# Altium footprint library Inductor_SMD.PcbLib: 259 footprints (part 11 of 17)
Each footprint in its own frame and in the unit in brackets; x right, y up, seen from the top. Pads: shape width x height; smd on the part's side, far side on the other; paste and mask are expansions set on the pad; w line width, h text height; cw(c..) or ccw(c..) is an arc to the next point about the centre after c.
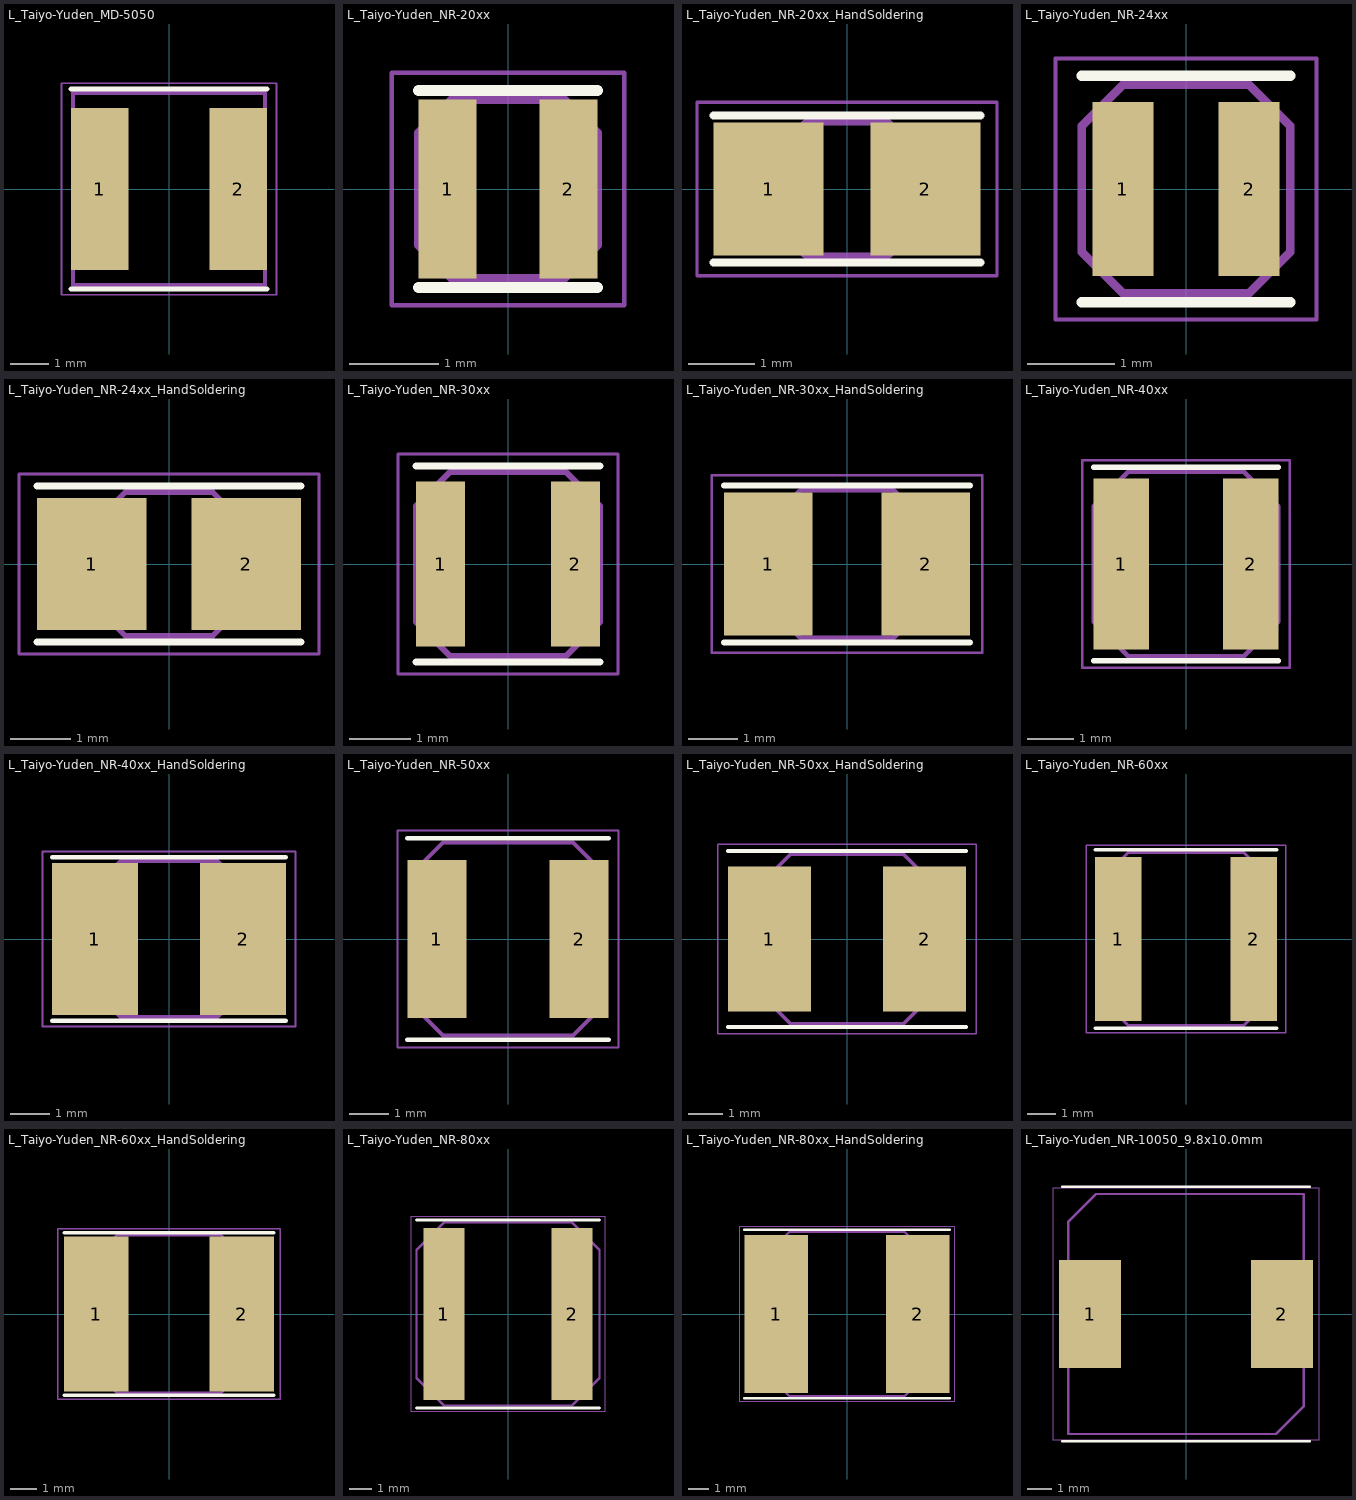
[diagram p10: the footprints below, top view; thin cyan lines are the x and y axes]

## L_Taiyo-Yuden_MD-5050 [mm]
pads (2):
  rect 1.5x4.2 smd: 1(-1.8,0) 2(1.8,0)
F.SilkS:
  lines w0.12: -2.55,-2.6 2.55,-2.6 ; -2.55,2.6 2.55,2.6
F.CrtYd:
  lines w0.05: -2.8,-2.75 2.8,-2.75 2.8,2.75 -2.8,2.75 -2.8,-2.75
F.Fab:
  lines w0.1: -2.5,-2.5 2.5,-2.5 2.5,2.5 -2.5,2.5 -2.5,-2.5
  text "'.Designator'" at -4.047,-0.84 h1

## L_Taiyo-Yuden_NR-20xx [mm]
pads (2):
  rect 0.65x2 smd: 1(-0.675,0) 2(0.675,0)
F.SilkS:
  lines w0.12: -1,-1.1 1,-1.1 ; -1,1.1 1,1.1
F.CrtYd:
  lines w0.05: -1.3,-1.3 1.3,-1.3 1.3,1.3 -1.3,1.3 -1.3,-1.3
F.Fab:
  lines w0.1: -1,-0.625 -1,0.625 -0.625,1 0.625,1 1,0.625 1,-0.625 0.625,-1 -0.625,-1 -1,-0.625
  text "'.Designator'" at -2.023,-0.42 h0.5

## L_Taiyo-Yuden_NR-20xx_HandSoldering [mm]
pads (2):
  rect 1.65x2 smd: 1(-1.175,0) 2(1.175,0)
F.SilkS:
  lines w0.12: -2,-1.1 2,-1.1 ; -2,1.1 2,1.1
F.CrtYd:
  lines w0.05: -2.25,-1.3 2.25,-1.3 2.25,1.3 -2.25,1.3 -2.25,-1.3
F.Fab:
  lines w0.1: -1,-0.625 -0.625,-1 0,-1 0.625,-1 1,-0.625 1,0 1,0.625 0.625,1 0,1 -0.625,1 -1,0.625 -1,0 -1,-0.625
  text "'.Designator'" at -2.023,-0.42 h0.5

## L_Taiyo-Yuden_NR-24xx [mm]
pads (2):
  rect 0.7x2 smd: 1(-0.725,0) 2(0.725,0)
F.SilkS:
  lines w0.12: -1.2,-1.3 1.2,-1.3 ; -1.2,1.3 1.2,1.3
F.CrtYd:
  lines w0.05: -1.5,-1.5 1.5,-1.5 1.5,1.5 -1.5,1.5 -1.5,-1.5
F.Fab:
  lines w0.1: -1.2,-0.725 -0.725,-1.2 0.725,-1.2 1.2,-0.725 1.2,0.725 0.725,1.2 -0.725,1.2 -1.2,0.725 -1.2,-0.725
  text "'.Designator'" at -2.023,-0.42 h0.5

## L_Taiyo-Yuden_NR-24xx_HandSoldering [mm]
pads (2):
  rect 1.825x2.2 smd: 1(-1.288,0) 2(1.288,0)
F.SilkS:
  lines w0.12: -2.2,-1.3 2.2,-1.3 ; -2.2,1.3 2.2,1.3
F.CrtYd:
  lines w0.05: -2.5,-1.5 2.5,-1.5 2.5,1.5 -2.5,1.5 -2.5,-1.5
F.Fab:
  lines w0.1: -1.2,-0.725 -1.2,0 -1.2,0.725 -0.725,1.2 0,1.2 0.725,1.2 1.2,0.725 1.2,0 1.2,-0.725 0.725,-1.2 0,-1.2 -0.725,-1.2 -1.2,-0.725
  text "'.Designator'" at -2.023,-0.42 h0.5

## L_Taiyo-Yuden_NR-30xx [mm]
pads (2):
  rect 0.8x2.7 smd: 1(-1.1,0) 2(1.1,0)
F.SilkS:
  lines w0.12: -1.5,-1.6 1.5,-1.6 ; -1.5,1.6 1.5,1.6
F.CrtYd:
  lines w0.05: -1.8,-1.8 1.8,-1.8 1.8,1.8 -1.8,1.8 -1.8,-1.8
F.Fab:
  lines w0.1: -1.5,-0.95 -0.95,-1.5 0.95,-1.5 1.5,-0.95 1.5,0.95 0.95,1.5 -0.95,1.5 -1.5,0.95 -1.5,-0.95
  text "'.Designator'" at -2.833,-0.588 h0.7

## L_Taiyo-Yuden_NR-30xx_HandSoldering [mm]
pads (2):
  rect 1.8x2.9 smd: 1(-1.6,0) 2(1.6,0)
F.SilkS:
  lines w0.12: -2.5,-1.6 2.5,-1.6 ; -2.5,1.6 2.5,1.6
F.CrtYd:
  lines w0.05: -2.75,-1.8 2.75,-1.8 2.75,1.8 -2.75,1.8 -2.75,-1.8
F.Fab:
  lines w0.1: -1.5,-0.95 -0.95,-1.5 0,-1.5 0.95,-1.5 1.5,-0.95 1.5,0 1.5,0.95 0.95,1.5 0,1.5 -0.95,1.5 -1.5,0.95 -1.5,0 -1.5,-0.95
  text "'.Designator'" at -2.833,-0.588 h0.7

## L_Taiyo-Yuden_NR-40xx [mm]
pads (2):
  rect 1.2x3.7 smd: 1(-1.4,0) 2(1.4,0)
F.SilkS:
  lines w0.12: -2,-2.1 2,-2.1 ; -2,2.1 2,2.1
F.CrtYd:
  lines w0.05: -2.25,-2.25 -2.25,2.25 2.25,2.25 2.25,-2.25 -2.25,-2.25
F.Fab:
  lines w0.1: -2,-1.25 -1.25,-2 1.25,-2 2,-1.25 2,1.25 1.25,2 -1.25,2 -2,1.25 -2,-1.25
  text "'.Designator'" at -4.047,-0.84 h1

## L_Taiyo-Yuden_NR-40xx_HandSoldering [mm]
pads (2):
  rect 2.2x3.9 smd: 1(-1.9,0) 2(1.9,0)
F.SilkS:
  lines w0.12: -3,-2.1 3,-2.1 ; -3,2.1 3,2.1
F.CrtYd:
  lines w0.05: -3.25,-2.25 3.25,-2.25 3.25,2.25 -3.25,2.25 -3.25,-2.25
F.Fab:
  lines w0.1: -2,-1.25 -2,0 -2,1.25 -1.25,2 0,2 1.25,2 2,1.25 2,0 2,-1.25 1.25,-2 0,-2 -1.25,-2 -2,-1.25
  text "'.Designator'" at -4.047,-0.84 h1

## L_Taiyo-Yuden_NR-50xx [mm]
pads (2):
  rect 1.5x4 smd: 1(-1.8,0) 2(1.8,0)
F.SilkS:
  lines w0.12: -2.55,-2.55 2.55,-2.55 ; -2.55,2.55 2.55,2.55
F.CrtYd:
  lines w0.05: -2.8,-2.75 -2.8,2.75 2.8,2.75 2.8,-2.75 -2.8,-2.75
F.Fab:
  lines w0.1: -2.45,-1.65 -2.45,1.65 -1.65,2.45 1.65,2.45 2.45,1.65 2.45,-1.65 1.65,-2.45 -1.65,-2.45 -2.45,-1.65
  text "'.Designator'" at -4.047,-0.84 h1

## L_Taiyo-Yuden_NR-50xx_HandSoldering [mm]
pads (2):
  rect 2.4x4.2 smd: 1(-2.25,0) 2(2.25,0)
F.SilkS:
  lines w0.12: -3.45,-2.55 3.45,-2.55 ; -3.45,2.55 3.45,2.55
F.CrtYd:
  lines w0.05: -3.75,-2.75 -3.75,2.75 3.75,2.75 3.75,-2.75 -3.75,-2.75
F.Fab:
  lines w0.1: -2.45,-1.65 -2.45,0 -2.45,1.65 -1.65,2.45 0,2.45 1.65,2.45 2.45,1.65 2.45,0 2.45,-1.65 1.65,-2.45 0,-2.45 -1.65,-2.45 -2.45,-1.65
  text "'.Designator'" at -4.047,-0.84 h1

## L_Taiyo-Yuden_NR-60xx [mm]
pads (2):
  rect 1.6x5.7 smd: 1(-2.35,0) 2(2.35,0)
F.SilkS:
  lines w0.12: -3.15,-3.1 3.15,-3.1 ; -3.15,3.1 3.15,3.1
F.CrtYd:
  lines w0.05: -3.45,-3.25 3.45,-3.25 3.45,3.25 -3.45,3.25 -3.45,-3.25
F.Fab:
  lines w0.1: -3,-2 -3,2 -2,3 2,3 3,2 3,-2 2,-3 -2,-3 -3,-2
  text "'.Designator'" at -4.047,-0.84 h1

## L_Taiyo-Yuden_NR-60xx_HandSoldering [mm]
pads (2):
  rect 2.45x5.9 smd: 1(-2.775,0) 2(2.775,0)
F.SilkS:
  lines w0.12: -4,-3.1 4,-3.1 ; -4,3.1 4,3.1
F.CrtYd:
  lines w0.05: -4.25,-3.25 -4.25,3.25 4.25,3.25 4.25,-3.25 -4.25,-3.25
F.Fab:
  lines w0.1: -3,-2 -2,-3 0,-3 2,-3 3,-2 3,0 3,2 2,3 0,3 -2,3 -3,2 -3,0 -3,-2
  text "'.Designator'" at -4.047,-0.84 h1

## L_Taiyo-Yuden_NR-80xx [mm]
pads (2):
  rect 1.8x7.5 smd: 1(-2.8,0) 2(2.8,0)
F.SilkS:
  lines w0.12: -4,-4.1 4,-4.1 ; -4,4.1 4,4.1
F.CrtYd:
  lines w0.05: -4.25,-4.25 4.25,-4.25 4.25,4.25 -4.25,4.25 -4.25,-4.25
F.Fab:
  lines w0.1: -4,-2.8 -4,2.8 -2.8,4 2.8,4 4,2.8 4,-2.8 2.8,-4 -2.8,-4 -4,-2.8
  text "'.Designator'" at -4.047,-0.84 h1

## L_Taiyo-Yuden_NR-80xx_HandSoldering [mm]
pads (2):
  rect 3.1x7.7 smd: 1(-3.45,0) 2(3.45,0)
F.SilkS:
  lines w0.12: -5,-4.1 5,-4.1 ; -5,4.1 5,4.1
F.CrtYd:
  lines w0.05: -5.25,-4.25 -5.25,4.25 5.25,4.25 5.25,-4.25 -5.25,-4.25
F.Fab:
  lines w0.1: -4,-2.8 -4,0 -4,2.8 -2.8,4 0,4 2.8,4 4,2.8 4,0 4,-2.8 2.8,-4 0,-4 -2.8,-4 -4,-2.8
  text "'.Designator'" at -4.047,-0.84 h1

## L_Taiyo-Yuden_NR-10050_9.8x10.0mm [mm]
pads (2):
  rect 2.6x4.5 smd: 1(-4,0) 2(4,0)
F.SilkS:
  lines w0.12: -5.15,-5.3 5.15,-5.3 ; -5.15,5.3 5.15,5.3
F.CrtYd:
  lines w0.05: -5.55,-5.25 5.55,-5.25 5.55,5.25 -5.55,5.25 -5.55,-5.25
F.Fab:
  lines w0.1: -4.9,-5 -4.9,3.85 -3.75,5 4.9,5 4.9,-3.85 3.75,-5 -4.9,-5
  text "'.Designator'" at -4.047,-0.84 h1